# Altium schematic symbol library 容阻感.SchLib: 12 symbols
Pins are listed as number, name and electrical type; pins without a type are passive.

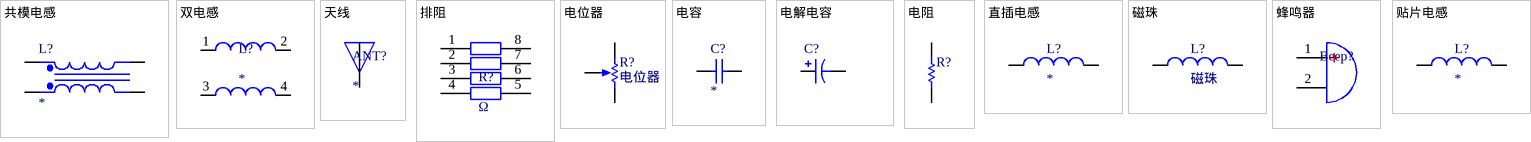
[diagram p0: symbols 共模电感 to 贴片电感]

## 共模电感
designator L?
footprint 8.5MM (SMD8.5X8.5X5.5)
footprint UU9.8Y-10MH
pins: 1 Sec+, 2 Pri+, 3 Pri-, 4 Sec-

## 双电感
designator L?
footprint 双电感
footprint L-CM(16*12*8)
footprint L-CM(18*9*7)
footprint L-CM(25*15*12)
pins: 1, 2, 3, 4

## 天线
designator ANT?
footprint ANT2400M
footprint ANT
pins: 1 *

## 排阻
designator R?, comment Ω
footprint 0402x4 排阻
footprint 0603_X4
pins: 1, 2, 3, 4, 5, 6, 7, 8

## 电位器
designator R?
footprint 3296W
pins: 1 TOP, 2 TAP, 3 BOT

## 电容
designator C?
Capacitor; Value: 22pF; Published: 8-Jun-2000; LatestRevisionDate: 17-Jul-2002; LatestRevisionNote: Re-released for DXP Platform.; PackageReference: RAD-0.3; Publisher: Altium Limited; PackageDescription: Radial Cap, Thru-Hole; 2 Leads; 0.3 in Pin Spacing
footprint C1206 (3216/A型)
footprint C0603
footprint 0805C
footprint 1.5CM (CBB)
footprint 5mm (插件)
footprint 120603 (兼容)
footprint C0402
pins: 1, 2

## 电解电容
designator C?
Polarized Capacitor (Axial); Value: 100pF; Published: 8-Jun-2000; LatestRevisionDate: 17-Jul-2002; LatestRevisionNote: Re-released for DXP Platform.; PackageReference: POLAR0.8; Publisher: Altium Limited; PackageDescription: Polarized Capacitor; 2 Leads
simulation model CAP (Capacitor)
signal-integrity model Cap Pol
footprint 5mm (插件)
footprint 贴片电解 8*10.2
footprint 贴片电解 6.3*5.4
footprint 贴片电解 10*10.5
footprint 贴片电解 4*5.4
footprint 3216-ce
footprint 3528-CE
footprint 6032-CE
footprint 7243-CE
pins: 1, 2
1 alternate drawing of the same symbol

## 电阻
designator R?
Resistor; Value: 150R; Published: 8-Jun-2000; LatestRevisionDate: 17-Jul-2002; LatestRevisionNote: Re-released for DXP Platform.; PackageReference: AXIAL-0.3; Publisher: Altium Limited; PackageDescription: Axial Device, Thru-Hole; 2 Leads; 0.3 in Pin Spacing
footprint R1206 (1/4W)
footprint 大
footprint R0402 (1/16W)
footprint R0603 (1/10W)
footprint R2512
footprint 120603 (兼容)
footprint R0805 (1/8W)
footprint R1812
footprint R2010
pins: 1, 2

## 直插电感
designator L?
footprint L6X8
footprint L8*10
footprint L8x8 (L?)
footprint L9x9 (L?)
footprint L5X7.5
footprint 77438
footprint L8*10_4p_L
footprint L8*10_4p_R
footprint L8*10_4p_C
pins: 1, 2

## 磁珠
designator L?
footprint L0402 (1/16W)
footprint L0603
footprint L0805 (1/8W)
footprint L1206 (1/4W)
footprint L1210
footprint L1808
footprint L1812
footprint L2220
pins: 1, 2

## 蜂鸣器
designator Beep?  (value not drawn)
footprint SMD-BUZZER-9.6X9.6X5
footprint Beep-5.0*5.0
footprint 蜂鸣器0905
pins: 1 A, 2 B

## 贴片电感
designator L?
footprint L5X4
footprint L5X5
footprint L7X7 (POWER INDUCTOR 5uH)
footprint L10X10
footprint L12X12
footprint L25X25
footprint L0402 (1/16W)
footprint L0603
footprint L0805 (1/8W)
footprint L1008 (2520)
footprint L1206 (1/4W)
footprint L1210
footprint L1808
footprint L1812
footprint L2220
footprint L2525
footprint 120603 (兼容)
pins: 1, 2